# EAGLE library part LMR38020SDDAR (library LMR38020SDDAR)
Switching Voltage Regulators SIMPLE SWITCHER power converter 4.2-V to 80-V, 2-A, synchronous buck with 40-uA IQ Source: Datasheet <https://www.ti.com/lit/ds/symlink/lmr38020.pdf?ts=1639464026979&ref_url=https%3A%2F%2Fwww.ti.com%2Fproduct%2FLMR38020>
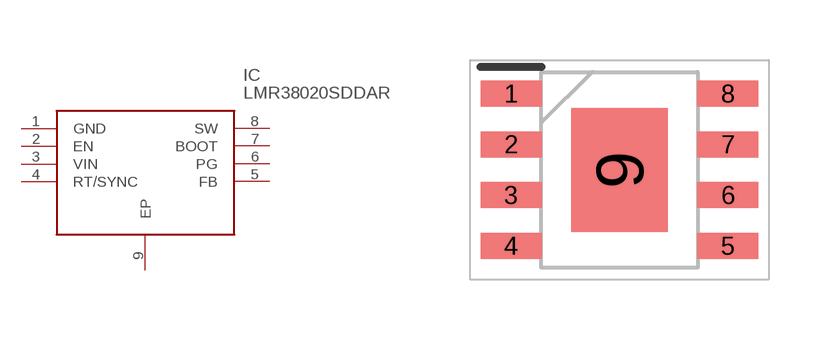
[diagram p0: symbol with the pads of SOIC127P600X170-9N; footprint SOIC127P600X170-9N]

Designator prefix IC

## LMR38020SDDAR (Description: Switching Voltage Regulators SIMPLE SWITCHER power converter 4.2-V to 80-V, 2-A, synchronous buck with 40-uA IQ; Height: 1.7mm; Manufacturer_Name: Texas Instruments; Manufacturer_Part_Number: LMR38020SDDAR; Mouser_Part_Number: 595-LMR38020SDDAR; Mouser_Price-Stock: https://www.mouser.co.uk/ProductDetail/Texas-Instruments/LMR38020SDDAR?qs=Rp5uXu7WBW%252BVq2PF2vRuwg%3D%3D)  [SOIC127P600X170-9N]
1  GND
2  EN
3  VIN
4  RT/SYNC
5  FB
6  PG
7  BOOT
8  SW
9  EP

## Footprint SOIC127P600X170-9N (pad centres in mm)
DDA00008E
smd 1.525 x 0.65: 1 -2.712,1.905; 2 -2.712,0.635; 3 -2.712,-0.635; 4 -2.712,-1.905; 5 2.712,-1.905; 6 2.712,-0.635; 7 2.712,0.635; 8 2.712,1.905
smd 2.4 x 3.1: 9 0,0